# Altium footprint library PcbLib1.PcbLib: 35 footprints (part 3 of 3)
Each footprint in its own frame and in the unit in brackets; x right, y up, seen from the top. Pads: shape width x height; smd on the part's side, far side on the other; paste and mask are expansions set on the pad; w line width, h text height; cw(c..) or ccw(c..) is an arc to the next point about the centre after c.
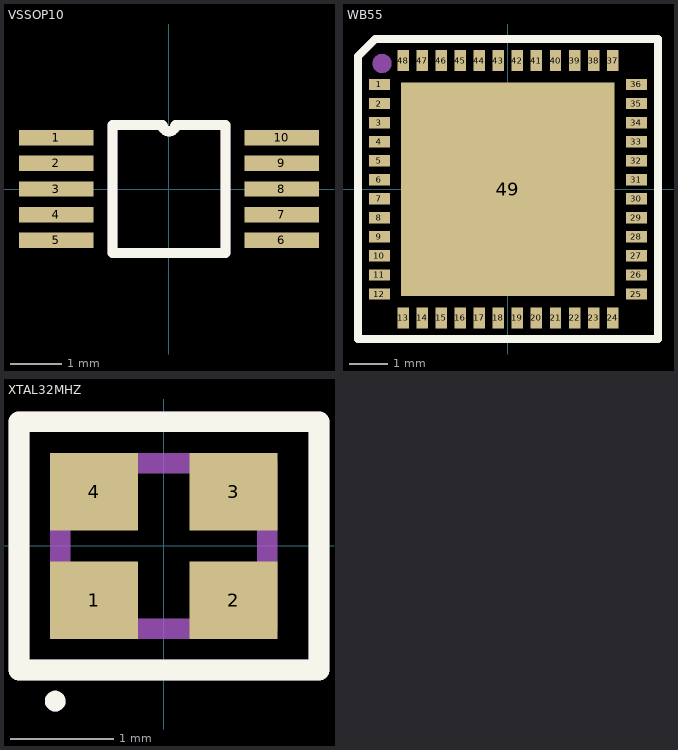
[diagram p2: the footprints below, top view; thin cyan lines are the x and y axes]

## VSSOP10 [mm]
pads (10):
  rect 1.45x0.3 smd mask+0.05: 1(-2.2,1) 2(-2.2,0.5) 3(-2.2,0) 4(-2.2,-0.5) 5(-2.2,-1) 6(2.2,-1) 7(2.2,-0.5) 8(2.2,0) 9(2.2,0.5) 10(2.2,1)
Top Overlay:
  lines w0.2: -1.1,-1.25 -1.1,1.25 -0.125,1.25 ccw(c0,1.25) 0.125,1.25 1.1,1.25 1.1,-1.25 -1.1,-1.25
Mechanical 29:
  lines w0.2: -1.1,-1.25 -1.1,1.25 -0.125,1.25 ccw(c0,1.25) 0.125,1.25 1.1,1.25 1.1,-1.25 -1.1,-1.25
  text "'.Designator'" at -0.7,-0.2 h1
3D body "TS5A23157DGSR.stp": height 1.11, standoff 0.01, extent -2.463,-1.5 2.463,1.5

## WB55 [mm]
pads (49):
  rect 0.55x0.3 smd mask+0.06: 1(-3.375,2.75) 2(-3.375,2.25) 3(-3.375,1.75) 4(-3.375,1.25) 5(-3.375,0.75) 6(-3.375,0.25) 7(-3.375,-0.25) 8(-3.375,-0.75) 9(-3.375,-1.25) 10(-3.375,-1.75) 11(-3.375,-2.25) 12(-3.375,-2.75) 25(3.375,-2.75) 26(3.375,-2.25) 27(3.375,-1.75) 28(3.375,-1.25) 29(3.375,-0.75) 30(3.375,-0.25) 31(3.375,0.25) 32(3.375,0.75) 33(3.375,1.25) 34(3.375,1.75) 35(3.375,2.25) 36(3.375,2.75)
  rect 0.3x0.55 smd mask+0.06: 13(-2.75,-3.375) 14(-2.25,-3.375) 15(-1.75,-3.375) 16(-1.25,-3.375) 17(-0.75,-3.375) 18(-0.25,-3.375) 19(0.25,-3.375) 20(0.75,-3.375) 21(1.25,-3.375) 22(1.75,-3.375) 23(2.25,-3.375) 24(2.75,-3.375) 37(2.75,3.375) 38(2.25,3.375) 39(1.75,3.375) 40(1.25,3.375) 41(0.75,3.375) 42(0.25,3.375) 43(-0.25,3.375) 44(-0.75,3.375) 45(-1.25,3.375) 46(-1.75,3.375) 47(-2.25,3.375) 48(-2.75,3.375)
  rect 5.6x5.6 smd mask+0.06: 49(0,0)
Top Overlay:
  lines w0.2: -3.934,-3.93 -3.934,3.491 -3.481,3.944 3.94,3.944 3.94,-3.93 -3.934,-3.93
Mechanical 29:
  circle w0.3: c-3.302,3.302 r0.1
  lines w0.2: -3.934,-3.93 -3.934,3.491 -3.481,3.944 3.94,3.944 3.94,-3.93 -3.934,-3.93
  text "'.Designator'" at -2.1,-0.1 h0.7
3D body "STM32WB55CCU6.step": height 0.66, standoff 0.01, extent -3.5,-3.5 3.5,3.5

## XTAL32MHZ [mm]
pads (4):
  rect 0.85x0.75 smd: 1(-0.675,-0.525) 2(0.675,-0.525) 3(0.675,0.525) 4(-0.675,0.525)
Top Overlay:
  lines w0.1: -1.082,-1.538 ccw(c-1.05,-1.5) -1.1,-1.5 ccw(c-1.05,-1.5) -1,-1.5
  lines w0.2: -1.4,-1.2 1.5,-1.2 1.5,1.2 -1.4,1.2 -1.4,-1.2
Mechanical 15:
  lines w0.2: -1,-0.8 1,-0.8 1,0.8 -1,0.8 -1,-0.8
Mechanical 29:
  lines w0.1: -1.1,-1.5 ccw(c-1.05,-1.5) -1,-1.5
  lines w0.2: -1.4,-1.2 1.5,-1.2 1.5,1.2 -1.4,1.2 -1.4,-1.2
  text "'.Designator'" at -1.1,-0.3 h0.7
3D body "NX2016SA-32M-EXS00A-CS06465.stp": height 0.47, standoff 0.01, extent -1,-0.8 1,0.8